# EAGLE library part DPDT (library PP_Electromechanical)
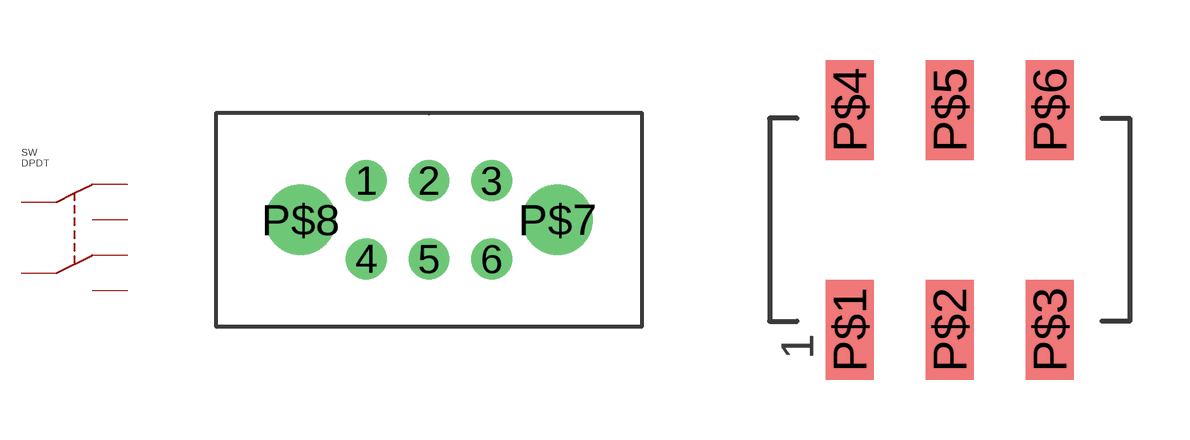
[diagram p0: symbol with the pads of 0S202011MA0QN1; footprints 0S202011MA0QN1, JS202011SCQN]

Designator prefix SW

## DPDT_0S202011MA0QN1  [0S202011MA0QN1]
1  1
2  2
3  3
4  4
5  5
6  6

## DPDT_JS202011SCQN  [JS202011SCQN]
P$1  1
P$2  2
P$3  3
P$4  4
P$5  5
P$6  6

## Footprint 0S202011MA0QN1 (pad centres in mm)
Mouser Part #: 611-OS202011MA0QN1 Manufacturer Part #: 0S202011MA0QN1 Manufacturer: C&K Components Description: Slide Switches DPDT On-On
drill 0.8: 1 -2,1.25; 2 0,1.25; 3 2,1.25; 4 -2,-1.25; 5 0,-1.25; 6 2,-1.25
drill 1.5: P$7 4.1,0; P$8 -4.1,0

## Footprint JS202011SCQN (pad centres in mm)
smd 1.2 x 2.5: P$1 -2.5,-2.75; P$2 0,-2.75; P$3 2.5,-2.75; P$4 -2.5,2.75; P$5 0,2.75; P$6 2.5,2.75